# Altium schematic symbol library Attenuator.SchLib: 1 symbol
Pins are listed as number, name and electrical type; pins without a type are passive.

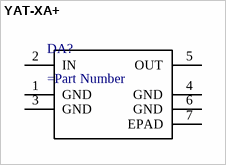
[diagram p0: symbol YAT-XA+]

## YAT-XA+
designator DA?
pins: 1 GND, 2 IN, 3 GND, 4 GND, 5 OUT, 6 GND, 7 EPAD